# Altium footprint library AMS-FN-6-2400X2000DE_V.PcbLib: 1 footprints
Each footprint in its own frame and in the unit in brackets; x right, y up, seen from the top. Pads: shape width x height; smd on the part's side, far side on the other; paste and mask are expansions set on the pad; w line width, h text height; cw(c..) or ccw(c..) is an arc to the next point about the centre after c.
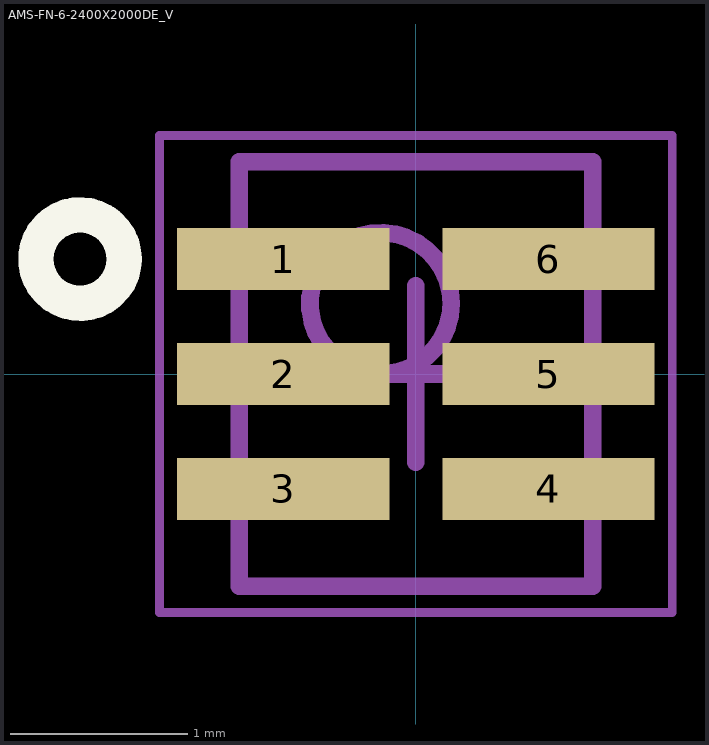
[diagram p0: the footprint, top view; thin cyan lines are the x and y axes]

## AMS-FN-6-2400X2000DE_V [mm] "SON, 6-Leads, Body 2.4x2mm, Pitch 0.65mm"
height 0.7
pads (6):
  rect 1.2x0.35 smd mask+0.102: 1(-0.75,0.65) 2(-0.75,0) 3(-0.75,-0.65) 4(0.75,-0.65) 5(0.75,0) 6(0.75,0.65)
Top Overlay:
  circle w0.2: c-1.9,0.65 r0.25
Mechanical 13:
  circle w0.1: c-0.2,0.4 r0.4
  lines w0.1: -1,-1.2 -1,1.2 1,1.2 1,-1.2 -1,-1.2
Mechanical 15:
  lines w0.05: -1.45,-1.35 -1.45,1.35 1.45,1.35 1.45,-1.35 -1.45,-1.35
  lines w0.1: -0.5,0 0.5,0 ; 0,-0.5 0,0.5
3D body: height 0.7, standoff 0, extent -1,-1.2 1,1.2